# Altium schematic symbol library 0_33OHM.SCHLIB: 1 symbol
Pins are listed as number, name and electrical type; pins without a type are passive.

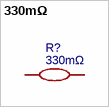
[diagram p0: symbol 330mΩ]

## 330mΩ
designator R?
Manufacturer: EVER OHMS(天二科技); Manufacturer Part: CRH2512JR330E04Z; nameAlias: Value; Contributor: LCSC; Supplier: LCSC; Supplier Part: C176087; JLCPCB Part Class: Extended Part; spicePre: R; spiceSymbolName: CR2512J0R33E042W
footprint R2512
pins: 1, 2